# EAGLE library part BD7851FP (library rohm)
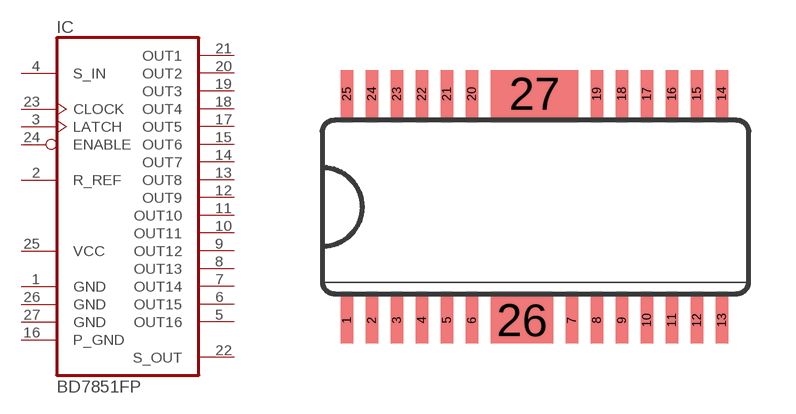
[diagram p0: symbol with the pads of HSOP25; footprint HSOP25]

Designator prefix IC

## BD7851FP  [HSOP25]
1  GND  sup
2  R_REF  in
3  LATCH  in
4  S_IN  in
5  OUT16  hiz
6  OUT15  hiz
7  OUT14  hiz
8  OUT13  hiz
9  OUT12  hiz
10  OUT11  hiz
11  OUT10  hiz
12  OUT9  hiz
13  OUT8  hiz
14  OUT7  hiz
15  OUT6  hiz
16  P_GND  sup
17  OUT5  hiz
18  OUT4  hiz
19  OUT3  hiz
20  OUT2  hiz
21  OUT1  hiz
22  S_OUT  hiz
23  CLOCK  in
24  ENABLE  in
25  VCC  pwr
26  GND  sup
27  GND  sup

## Footprint HSOP25 (pad centres in mm)
smd 0.4 x 1.5: 1 -6.07,-3.625; 2 -5.27,-3.625; 3 -4.47,-3.625; 4 -3.67,-3.625; 5 -2.87,-3.625; 6 -2.07,-3.625; 7 1.13,-3.625; 8 1.93,-3.625; 9 2.73,-3.625; 10 3.53,-3.625; 11 4.33,-3.625; 12 5.13,-3.625; 13 5.93,-3.625; 14 5.93,3.625; 15 5.13,3.625; 16 4.33,3.625; 17 3.53,3.625; 18 2.73,3.625; 19 1.93,3.625; 20 -2.07,3.625; 21 -2.87,3.625; 22 -3.67,3.625; 23 -4.47,3.625; 24 -5.27,3.625; 25 -6.07,3.625
smd 2 x 1.5: 26 -0.47,-3.625
smd 2.8 x 1.5: 27 -0.072,3.628